# Altium schematic symbol library RPI_B+_40Pin_Header.SchLib: 1 symbol
Pins are listed as number, name and electrical type; pins without a type are passive.

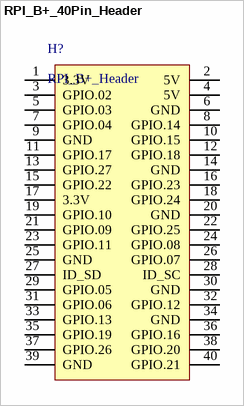
[diagram p0: symbol RPI_B+_40Pin_Header]

## RPI_B+_40Pin_Header
designator H?, comment RPI_B+_Header
footprint RPI_B+_40Pin_Header
footprint RPI_ZERO_40pin_CMS_FEMALE
footprint RPI_ZERO_40PIN_CMS_MALE
footprint RPI_ZERO_RIGHT ANGLE
footprint RPI_ZERO_RIGHT ANGLE no silkscreen
pins: 1 3.3V, 2 5V, 3 GPIO.02, 4 5V, 5 GPIO.03, 6 GND, 7 GPIO.04, 8 GPIO.14, 9 GND, 10 GPIO.15, 11 GPIO.17, 12 GPIO.18, 13 GPIO.27, 14 GND, 15 GPIO.22, 16 GPIO.23, 17 3.3V, 18 GPIO.24, 19 GPIO.10, 20 GND, 21 GPIO.09, 22 GPIO.25, 23 GPIO.11, 24 GPIO.08, 25 GND, 26 GPIO.07, 27 ID_SD, 28 ID_SC, 29 GPIO.05, 30 GND, 31 GPIO.06, 32 GPIO.12, 33 GPIO.13, 34 GND, 35 GPIO.19, 36 GPIO.16, 37 GPIO.26, 38 GPIO.20, 39 GND, 40 GPIO.21